# EAGLE library part OEM719 (library template_board)
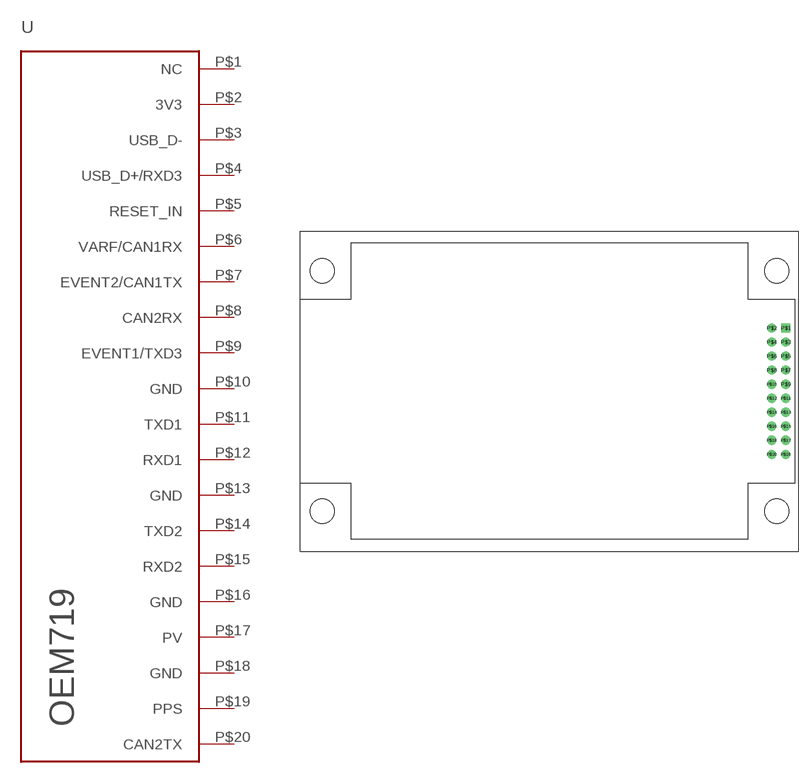
[diagram p27: symbol with the pads of OEM719; footprint OEM719]

Designator prefix U

## OEM719  [OEM719]
P$1  NC
P$2  3V3
P$3  USB_D-
P$4  USB_D+/RXD3
P$5  RESET_IN
P$6  VARF/CAN1RX
P$7  EVENT2/CAN1TX
P$8  CAN2RX
P$9  EVENT1/TXD3
P$10  GND
P$11  TXD1
P$12  RXD1
P$13  GND
P$14  TXD2
P$15  RXD2
P$16  GND
P$17  PV
P$18  GND
P$19  PPS
P$20  CAN2TX

## Footprint OEM719 (pad centres in mm)
drill 0.8 square: P$1 69.22,31.84
drill 0.8: P$2 67.22,31.84; P$3 69.22,29.84; P$4 67.22,29.84; P$5 69.22,27.84; P$6 67.22,27.84; P$7 69.22,25.84; P$8 67.22,25.84; P$9 69.22,23.84; P$10 67.22,23.84; P$11 69.22,21.84; P$12 67.22,21.84; P$13 69.22,19.84; P$14 67.22,19.84; P$15 69.22,17.84; P$16 67.22,17.84; P$17 69.22,15.84; P$18 67.22,15.84; P$19 69.22,13.84; P$20 67.22,13.84
hole 3.45 at 3.18,5.72
hole 3.45 at 3.18,40.01
hole 3.45 at 67.95,5.72
hole 3.45 at 67.95,40.01